# Altium footprint library AirQualityMonitor.PcbLib: 32 footprints (part 1 of 2)
Each footprint in its own frame and in the unit in brackets; x right, y up, seen from the top. Pads: shape width x height; smd on the part's side, far side on the other; paste and mask are expansions set on the pad; w line width, h text height; cw(c..) or ccw(c..) is an arc to the next point about the centre after c.
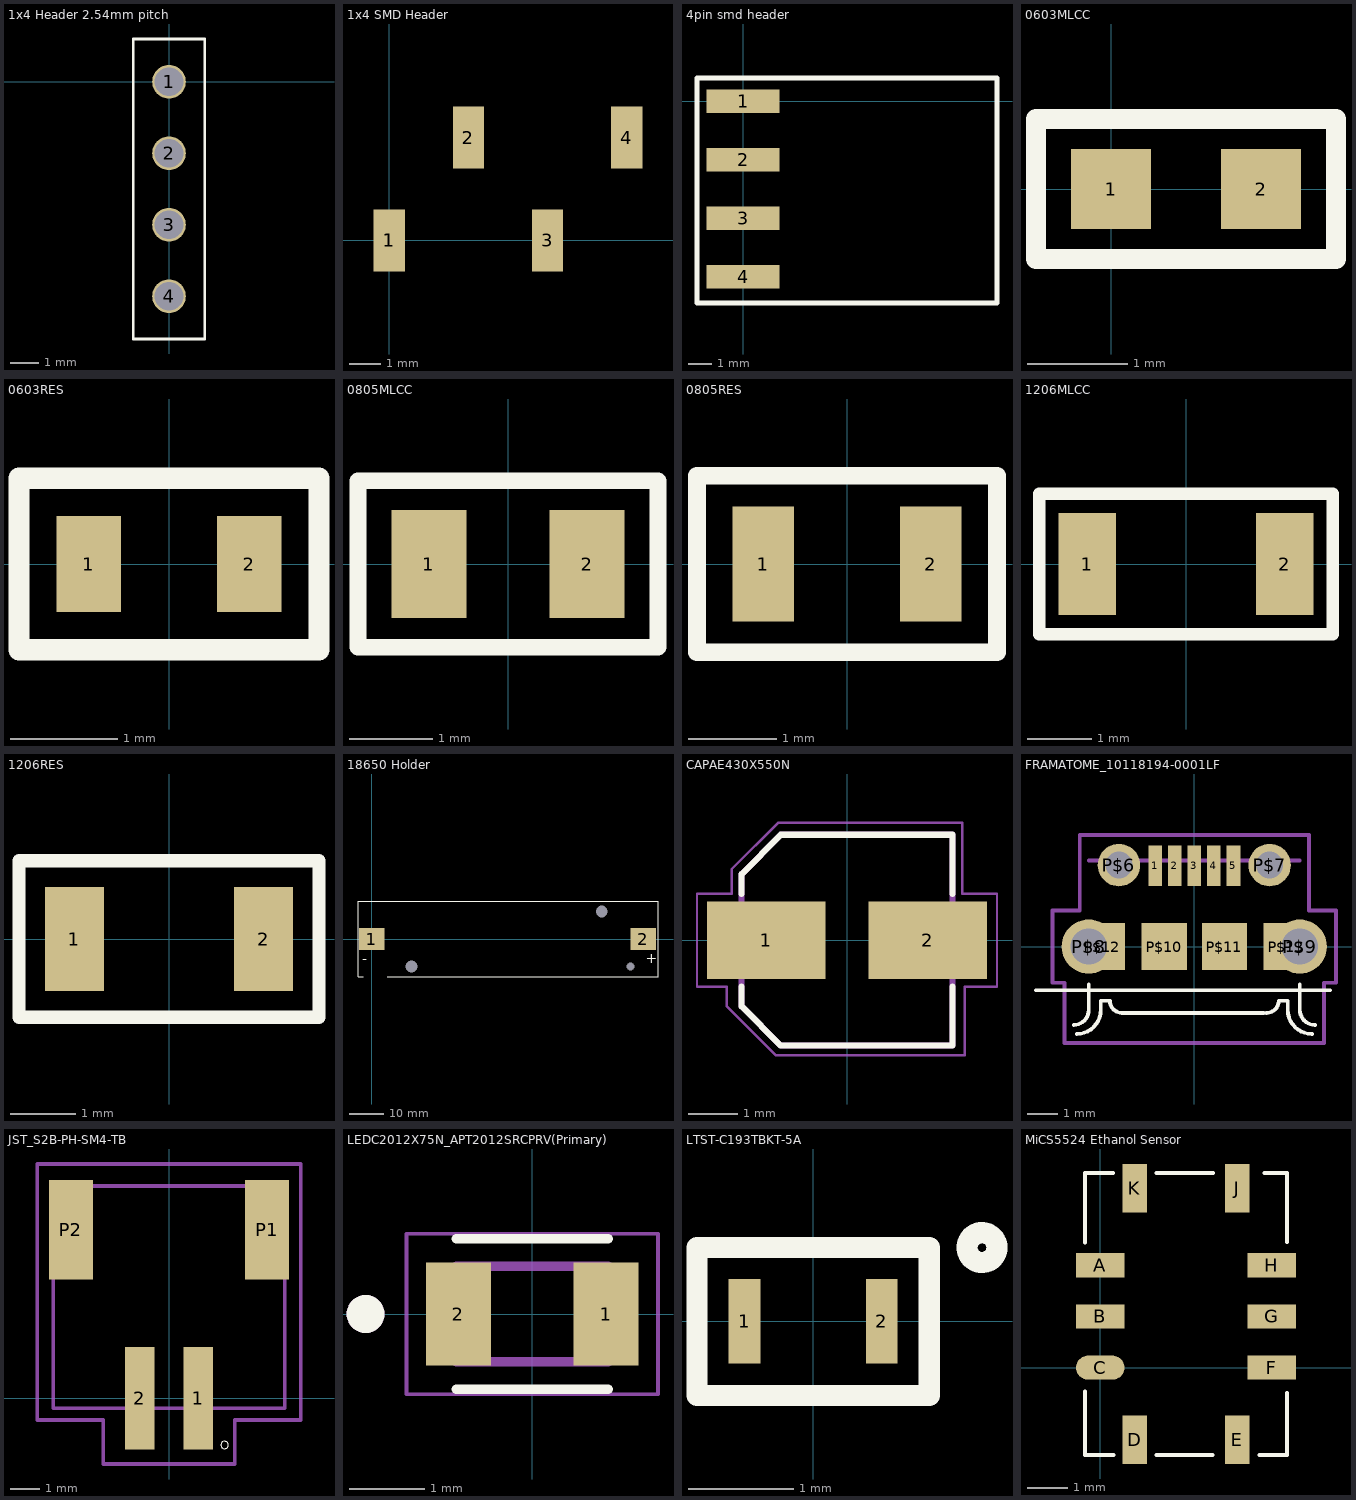
[diagram p0: the footprints below, top view; thin cyan lines are the x and y axes]

## 1x4 Header 2.54mm pitch [mm]
pads (4):
  round 1.2 hole 1.02 mask+0.1: 1(0,0) 2(0,-2.54) 3(0,-5.08) 4(0,-7.62)
Top Overlay:
  lines w0.1: -1.27,-9.14 -1.27,1.52 1.27,1.52 1.27,-9.14 -1.27,-9.14
3D body "Conn_Sullins_PPTC041LFBN-RC_eec.STEP": height 8.51, standoff -3.19, extent -1.221,-9.17 1.319,1.49

## 1x4 SMD Header [mm]
pads (5):
  rect 1x2 smd mask+0.3: 1(0,0) 1(0,0) 2(2.54,3.3) 3(5.08,0) 4(7.62,3.3)
3D body "Header-rev2.step": height 7.76, standoff 0.01, extent -1.58,0.3 9.18,2.9

## 4pin smd header [mm]
pads (4):
  rect 3.17x1.02 smd: 1(0,0) 2(0,-2.54) 3(0,-5.08) 4(0,-7.62)
Top Overlay:
  lines w0.2: -2,-8.75 -2,1 11,1 11,-8.75 -2,-8.75

## 0603MLCC [mm]
pads (2):
  rect 0.8x0.8 smd: 1(0,0) 2(1.5,0)
Top Overlay:
  lines w0.2: -0.75,-0.7 2.25,-0.7 2.25,0.7 -0.75,0.7 -0.75,-0.7
3D body "74416.stp": height 0.96, standoff 0.01, extent -0.125,-0.475 1.625,0.475

## 0603RES [mm]
pads (2):
  rect 0.6x0.9 smd: 1(-0.75,0) 2(0.75,0)
Top Overlay:
  lines w0.2: -1.4,-0.8 -1.4,0.8 1.4,0.8 1.4,-0.8 -1.4,-0.8
3D body "CircuitWorks-RESISTOR 0603.step": height 0.52, standoff 0.01, extent -0.8,-0.43 0.8,0.43

## 0805MLCC [mm]
pads (2):
  rect 0.9x1.3 smd: 1(-0.95,0) 2(0.95,0)
Top Overlay:
  lines w0.2: -1.8,-1 1.8,-1 1.8,1 -1.8,1 -1.8,-1
3D body "70095564.stp": height 1.01, standoff 0.01, extent -1.1,-0.725 1.1,0.725

## 0805RES [mm]
pads (2):
  rect 0.7x1.3 smd: 1(-0.95,0) 2(0.95,0)
Top Overlay:
  lines w0.2: -1.7,-1 1.7,-1 1.7,1 -1.7,1 -1.7,-1
3D body "CircuitWorks-RESISTOR 0805.step": height 0.47, standoff 0.01, extent -1,-0.63 1,0.63

## 1206MLCC [mm]
pads (2):
  rect 0.9x1.6 smd: 1(-1.55,0) 2(1.55,0)
Top Overlay:
  lines w0.2: -2.3,-1.1 2.3,-1.1 2.3,1.1 -2.3,1.1 -2.3,-1.1
3D body "74688.stp": height 0.89, standoff 0.01, extent -1.7,-0.9 1.7,0.9

## 1206RES [mm]
pads (2):
  rect 0.9x1.6 smd: 1(-1.45,0) 2(1.45,0)
Top Overlay:
  lines w0.2: -2.3,-1.2 2.3,-1.2 2.3,1.2 -2.3,1.2 -2.3,-1.2
3D body "CircuitWorks-RESISTOR 1206.step": height 0.57, standoff 0.01, extent -1.6,-0.83 1.6,0.83

## 18650 Holder [mm]
pads (5):
  rect 7.34x6.35 smd: 1(0,0) 2(78.7,0)
  round 1.524 hole 3.45 unplated: 6(11.475,-8) 7(66.675,8)
  round 1.524 hole 2.39 unplated: 8(75,-8)
Top Overlay:
  lines w0.2: -2.5,-11 -4,-11 -4,11 83,11 83,-11 4.5,-11
  text "+" at 79.39,-7.03 h3
  text "-" at -2.73,-7.12 h3
3D body "KEYELCO_1042.STEP": height 14.99, standoff -3.3, extent -3.527,-10.325 82.477,10.325

## CAPAE430X550N [mm]
pads (2):
  rect 2.42x1.58 smd: 1(-1.65,0) 2(1.65,0)
Top Overlay:
  lines w0.127: -2.15,-0.95 -2.15,-1.35 -1.35,-2.15 2.15,-2.15 2.15,-0.95 ; -2.15,0.95 -2.15,1.35 -1.35,2.15 2.15,2.15 2.15,0.95
Mechanical 4:
  lines w0.127: -2.15,-1.35 -1.35,-2.15 ; -2.15,-1.35 -2.15,1.35 ; -2.15,-1.35 -1.35,-2.15 ; -2.15,-1.35 -2.15,1.35 ; -2.15,1.35 -1.35,2.15 ; -2.15,1.35 -1.35,2.15 ; -1.35,-2.15 2.15,-2.15 ; -1.35,-2.15 2.15,-2.15 ; -1.35,2.15 2.15,2.15 ; -1.35,2.15 2.15,2.15 ; 2.15,-2.15 2.15,2.15 ; 2.15,-2.15 2.15,2.15
Mechanical 16:
  lines w0.05: -3.06,-0.95 -2.45,-0.95 -2.45,-1.35 -1.45,-2.35 2.4,-2.35 2.4,-0.95 3.06,-0.95 3.06,0.95 2.35,0.95 2.35,2.4 -1.4,2.4 -2.35,1.45 -2.35,0.95 -3.06,0.95 -3.06,-0.95
3D body "User Library-SMD Polymer Aluminum Electrolytic Capacitors C6 100uF 6,3V.step": height 5.9, standoff -0.05, extent -3.65,-3.3 3.65,3.3

## FRAMATOME_10118194-0001LF [mm]
pads (13):
  rect 0.45x1.35 smd mask+0.05: 1(-1.3,2.675) 2(-0.65,2.675) 3(0,2.675) 4(0.65,2.675) 5(1.3,2.675)
  round 1.408 hole 0.9: P$6(-2.5,2.7) P$7(2.5,2.7)
  round 1.8 hole 1.2: P$8(-3.5,0) P$9(3.5,0)
  rect 1.5x1.55 smd: P$10(-1,0) P$11(1,0) P$12(-3.05,0) P$13(3.05,0)
Top Overlay:
  lines w0.127: -5.25,-1.45 4.5,-1.45 ; -4,-2.6 ccw(c-4,-2.1) -3.5,-2.1 ; -3.9,-2.9 ccw(c-3.9,-2.1) -3.1,-2.1 -3.1,-1.8 -2.8,-1.8 ccw(c-2.4,-1.8) -2.4,-2.2 2.3,-2.2 ; -3.5,-2.15 -3.5,-2.1 ; -3.5,-1.25 -3.5,-2.1 ; 2.4,-2.2 ccw(c2.4,-1.8) 2.8,-1.8 3.1,-1.8 3.1,-2.1 ccw(c3.9,-2.1) 3.9,-2.9 ; 4,-2.6 cw(c4,-2.1) 3.5,-2.1 ; 3.5,-2.1 3.5,-2.15 3.5,-1.25 3.5,-2.1
Mechanical 4:
  lines w0.127: -3.5,2.85 3.5,2.85 -3.5,2.85
Mechanical 16:
  lines w0.127: -2.5,3.7 3.8,3.7 3.8,1.2 4.7,1.2 4.7,-1.2 4.3,-1.2 4.3,-3.2 -4.3,-3.2 -4.3,-1.2 -4.7,-1.2 -4.7,1.2 -3.8,1.2 -3.8,3.7 -1.8,3.7
3D body "10118194c.stp": height 2.77, standoff -0.51, extent -4.025,-2.7 4.025,2.88

## JST_S2B-PH-SM4-TB [mm]
pads (4):
  rect 1x3.5 smd: 1(1,0) 2(-1,0)
  rect 1.5x3.4 smd: P1(3.35,5.75) P2(-3.35,5.75)
Top Overlay:
  circle w0: c1.9,-1.6 r0.127
Mechanical 4:
  lines w0.127: -3.95,-0.35 3.95,-0.35 ; -3.95,-0.35 -3.95,7.25 ; -3.95,-0.35 3.95,-0.35 ; -3.95,-0.35 -3.95,7.25 ; -3.95,7.25 3.95,7.25 ; -3.95,7.25 3.95,7.25 ; 3.95,-0.35 3.95,7.25 ; 3.95,-0.35 3.95,7.25
Mechanical 16:
  lines w0.127: -4.5,-0.75 -2.25,-0.75 -2.25,-2.25 2.25,-2.25 2.25,-0.75 4.5,-0.75 4.5,8 -4.5,8 -4.5,-0.75
3D body "S2B-PH-SM4-TB(LF)(SN)--3DModel-STEP-56544.STEP": height 5.63, standoff -0.35, extent -3.95,-1.467 3.95,7.376

## LEDC2012X75N_APT2012SRCPRV(Primary) [mm]
pads (2):
  rect 0.86x1.36 smd: 1(0.975,0) 2(-0.975,0)
Top Overlay:
  circle w0.3: c-2.2,0 r0.1
  lines w0.127: -1,-0.995 1,-0.995 ; -1,0.995 1,0.995
Mechanical 4:
  circle w0.3: c-2.2,0 r0.1
  circle w0.3: c-2.2,0 r0.1
  lines w0.127: -1,-0.63 1,-0.63 ; -1,-0.63 -1,0.63 ; -1,-0.63 1,-0.63 ; -1,-0.63 -1,0.63 ; -1,0.63 1,0.63 ; -1,0.63 1,0.63 ; 1,-0.63 1,0.63 ; 1,-0.63 1,0.63
Mechanical 16:
  lines w0.05: -1.66,-1.059 1.66,-1.059 1.66,1.059 -1.66,1.059 -1.66,-1.059

## LTST-C193TBKT-5A [mm]
pads (2):
  rect 0.3x0.8 smd: 1(-0.65,0) 2(0.65,0)
Top Overlay:
  circle w0.2: c1.6,0.7 r0.141
  lines w0.2: -1.1,-0.7 1.1,-0.7 1.1,0.7 -1.1,0.7 -1.1,-0.7
3D body "User Library-LTST-C193NBKT.step": height 0.4, standoff 0, extent -0.8,-0.4 0.8,0.4

## MiCS5524 Ethanol Sensor [mm]
pads (10):
  rect 1.2x0.6 smd: A(0,2.54) B(0,1.27) F(4.25,0) G(4.25,1.27) H(4.25,2.54)
  oval 1.2x0.6 smd: C(0,0)
  rect 0.6x1.2 smd: D(0.855,-1.79) E(3.395,-1.79) J(3.395,4.45) K(0.855,4.45)
Top Overlay:
  lines w0.1: -0.375,-0.595 -0.375,-2.17 0.33,-2.17 ; -0.375,3.105 -0.375,4.83 0.31,4.83 ; 1.39,-2.17 2.78,-2.17 ; 1.39,4.83 2.8,4.83 ; 3.95,-2.17 4.625,-2.17 4.625,-0.625 ; 4.07,4.83 4.625,4.83 4.625,3.11
3D body "MICS-5524.step": height 1.31, standoff 0.01, extent -0.375,-2.175 4.625,4.825